# Altium footprint library Rly80A.PCBLIB: 1 footprints
Each footprint in its own frame and in the unit in brackets; x right, y up, seen from the top. Pads: shape width x height; smd on the part's side, far side on the other; paste and mask are expansions set on the pad; w line width, h text height; cw(c..) or ccw(c..) is an arc to the next point about the centre after c.
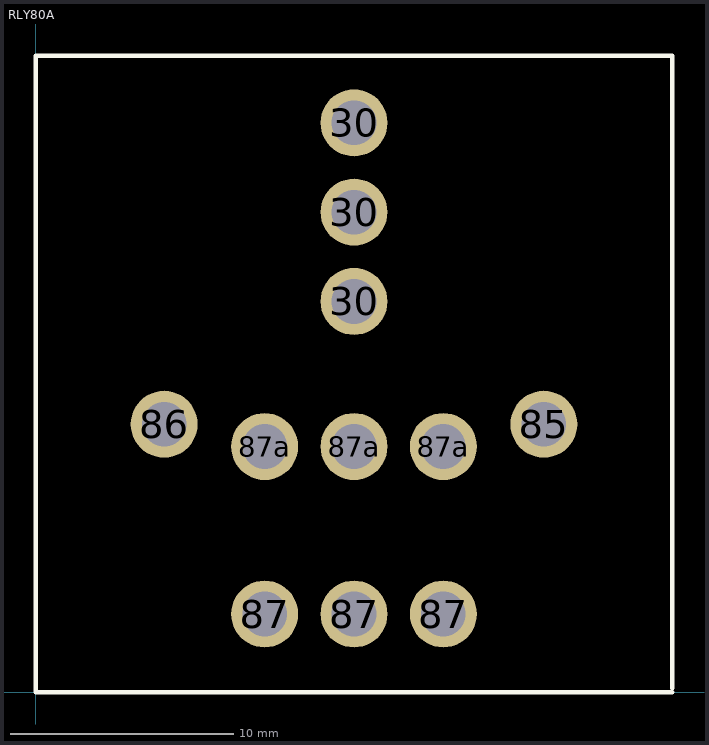
[diagram p0: the footprint, top view; thin cyan lines are the x and y axes]

## RLY80A [mm]
pads (11):
  round 3 hole 2: 30(14.25,17.5) 30(14.25,21.5) 30(14.25,25.5) 85(22.75,12) 86(5.75,12) 87(10.25,3.5) 87(14.25,3.5) 87(18.25,3.5) 87a(10.25,11) 87a(14.25,11) 87a(18.25,11)
Top Overlay:
  lines w0.2: 28.5,0 0,0 0,28.5 28.5,28.5 28.5,0.179